# EAGLE library part MCP79410 (library SmallRoomLabs)
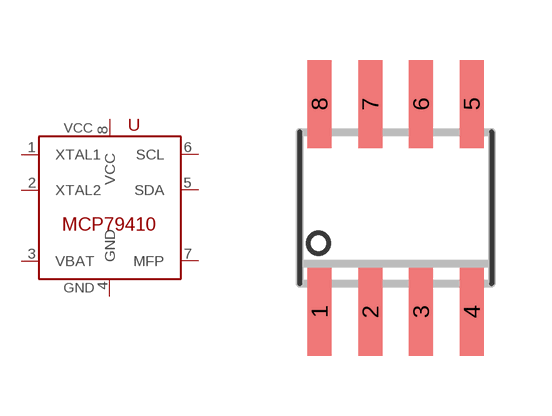
[diagram p8: symbol with the pads of SOIC8; footprint SOIC8]

Designator prefix -

## MCP79410-SOIC  [SOIC8]
1  XTAL1
2  XTAL2
3  VBAT
4  GND
5  SDA
6  SCL
7  MFP
8  VCC

## Footprint SOIC8 (pad centres in mm)
smd 0.6 x 2.2: 1 -1.905,-2.6; 2 -0.635,-2.6; 3 0.635,-2.6; 4 1.905,-2.6; 5 1.905,2.6; 6 0.635,2.6; 7 -0.635,2.6; 8 -1.905,2.6